# Altium footprint library myRLC.PcbLib: 39 footprints (part 2 of 3)
Each footprint in its own frame and in the unit in brackets; x right, y up, seen from the top. Pads: shape width x height; smd on the part's side, far side on the other; paste and mask are expansions set on the pad; w line width, h text height; cw(c..) or ccw(c..) is an arc to the next point about the centre after c.
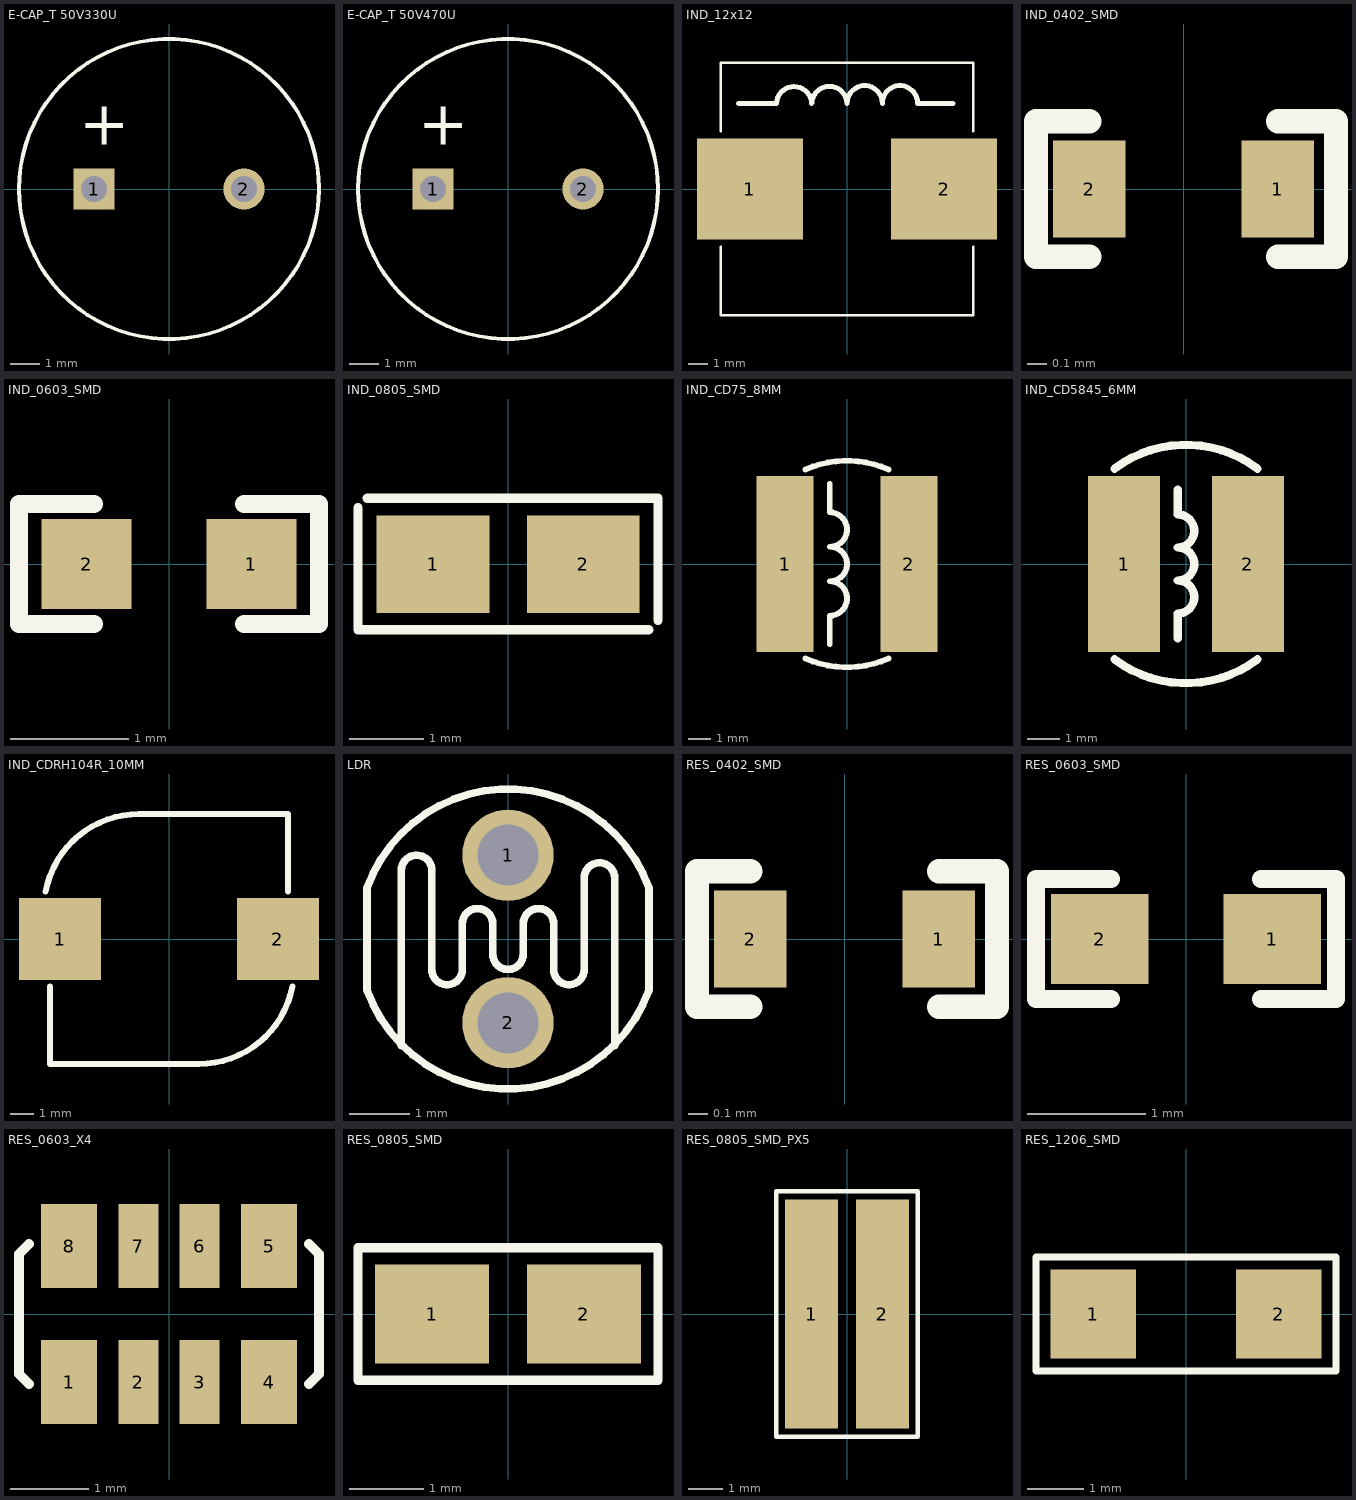
[diagram p1: the footprints below, top view; thin cyan lines are the x and y axes]

## E-CAP_T 50V330U [mil]
height 690
pads (2):
  rect 55x55 hole 35: 1(-100,0)
  round 55 hole 35: 2(100,0)
Top Overlay:
  circle w5: c0,0 r200
  text "+" at -120,40 h100
3D body: height 690, standoff 0, extent -201,-199 200,199

## E-CAP_T 50V470U [mil]
height 690
pads (2):
  rect 55x55 hole 35: 1(-100,0)
  round 55 hole 35: 2(100,0)
Top Overlay:
  circle w5: c0,0 r200
  text "+" at -120,40 h100
3D body: height 690, standoff 0, extent -201,-199 200,199

## IND_12x12 [mil]
height 304
pads (2):
  rect 210x200 smd: 1(-192.5,0) 2(192.5,0)
Top Overlay:
  lines w5: -250,-115 -250,-250 250,-250 250,-115 ; -250,115 -250,250 250,250 250,115
  lines w10: -215,170 -140,170 ; -139.9,170.01 cw(c-104.95,168.16) -70,170 ; -69.94,170.11 cw(c-34.97,168.64) 0,170 cw(c35,170) 70,170 cw(c105,170) 140,170 210,170
3D body: height 304, standoff 0, extent -250,-250 250,250

## IND_0402_SMD [mil]
pads (2):
  rect 15x20 smd: 1(19.5,0) 2(-19.5,0)
Top Overlay:
  lines w5: -19.5,-14 -30.5,-14 -30.5,14 -19.5,14 ; 19.5,-14 31.5,-14 31.5,14 19.5,14
3D body: height 23.62, standoff 0, extent -30,-15 30,15

## IND_0603_SMD [mil]
pads (2):
  rect 30x30 smd: 1(27.5,0) 2(-27.5,0)
Top Overlay:
  lines w6: -25,-20 -50,-20 -50,20 -25,20 ; 25,-20 50,-20 50,20 25,20
3D body: height 23.62, standoff 0, extent -50,-20 50,20

## IND_0805_SMD [mil]
pads (2):
  rect 60x52 smd: 1(-40,0) 2(40,0)
Top Overlay:
  lines w5: -80,30 -80,-35 75,-35 ; -75,35 80,35 80,-30
3D body: height 30, standoff 0, extent -80,-35 80,35

## IND_CD75_8MM [mil]
height 304
pads (2):
  rect 100x307 smd: 1(-108,0) 2(108,0)
Top Overlay:
  lines w10: -72.15,-164.91 ccw(c0,0) 72.15,-164.91 ; -72.15,164.91 cw(c0,0) 72.15,164.91 ; -30,-140 -30,-90 ccw(c-30,-60) -30,-30 ccw(c-30,0) -30,30 ccw(c-30,60) -30,90 -30,140
3D body: height 197, standoff 0, extent -110,-180 100,180

## IND_CD5845_6MM [mil]
height 304
pads (2):
  rect 87x213 smd: 1(-75,0) 2(75,0)
Top Overlay:
  lines w10: -86.53,-115.38 ccw(c0,0) 86.53,-115.38 ; -86.53,115.38 cw(c0,0) 86.53,115.38 ; -10,-90 -10,-60 ccw(c-10,-40) -10,-20 ccw(c-10,0) -10,20 ccw(c-10,40) -10,60 -10,90
3D body: height 197, standoff 0, extent -90,-145 90,145

## IND_CDRH104R_10MM [mil]
height 157.5
pads (2):
  rect 138x138 smd: 1(-183,0) 2(183,0)
Top Overlay:
  lines w10: -207.26,79.49 cw(c-50,50) -50,210 0,210 200,210 200,80 ; -200,-80 -200,-210 0,-210 50,-210 ccw(c50,-50) 207.26,-79.49
3D body: height 157.5, standoff 0, extent -200,-210 200,210

## LDR [mil]
pads (2):
  round 60 hole 40: 1(0,55) 2(0,-55)
Top Overlay:
  lines w5: -70,-70 -70,45 cw(c-60,45) -50,45 -50,35 -50,-20 ccw(c-40,-20) -30,-20 -30,10 cw(c-20,10) -10,10 -10,-10 ccw(c0,-10) 10,-10 10,10 cw(c20,10) 30,10 30,-20 ccw(c40,-20) 50,-20 50,40 cw(c60,40) 70,40 70,-70 ; -92.49,-33.66 ccw(c0,0) 92.49,-33.66 92.49,33.66 ccw(c0,0) -92.49,33.66 -92.49,-33.66
3D body: height 100, standoff 0, extent -92,-98 93,99

## RES_0402_SMD [mil]
pads (2):
  rect 15x20 smd: 1(19.5,0) 2(-19.5,0)
Top Overlay:
  lines w5: -19.5,-14 -30.5,-14 -30.5,14 -19.5,14 ; 19.5,-14 31.5,-14 31.5,14 19.5,14
3D body: height 23.62, standoff 0, extent -30,-15 30,15

## RES_0603_SMD [mil]
pads (2):
  rect 32.5x30 smd: 1(28.75,0) 2(-28.75,0)
Top Overlay:
  lines w6: -25,-20 -50,-20 -50,20 -25,20 ; 25,-20 50,-20 50,20 25,20
3D body: height 23.62, standoff 0, extent -50,-20 50,20

## RES_0603_X4 [mil]
pads (8):
  rect 28x42 smd: 1(-50,-34) 4(50,-34) 5(50,34) 8(-50,34)
  rect 20x42 smd: 2(-15.33,-34) 3(15.33,-34) 6(15.33,34) 7(-15.33,34)
Top Overlay:
  lines w5: -70,-35 -75,-30 -75,30 -70,35 ; 70,-35 75,-30 75,30 70,35
3D body: height 30, standoff 0, extent -64,-31 64,31

## RES_0805_SMD [mil]
pads (2):
  rect 60x52 smd: 1(-40,0) 2(40,0)
Top Overlay:
  lines w5: -79,-35 -79,35 79,35 79,-35 29.25,-35 -30.25,-35 -79,-35
3D body: height 30, standoff 0, extent -79,-35 79,35

## RES_0805_SMD_PX5 [mil]
pads (2):
  rect 60x260 smd: 1(-40,0) 2(40,0)
Top Overlay:
  lines w5: -80,-139 -80,139 80,139 80,-139 -80,-139
3D body: height 30, standoff 0, extent -80,-139 80,139

## RES_1206_SMD [mil]
pads (2):
  rect 60x62 smd: 1(-65,0) 2(65,0)
Top Overlay:
  lines w5: -105,-40 105,-40 105,40 -105,40 -105,-40
3D body: height 30, standoff 0, extent -105,-40 105,40